# EAGLE library part RASPBERRYPI-PICO-W (library innove-raspberrypi)
Raspberry Pi Pico W
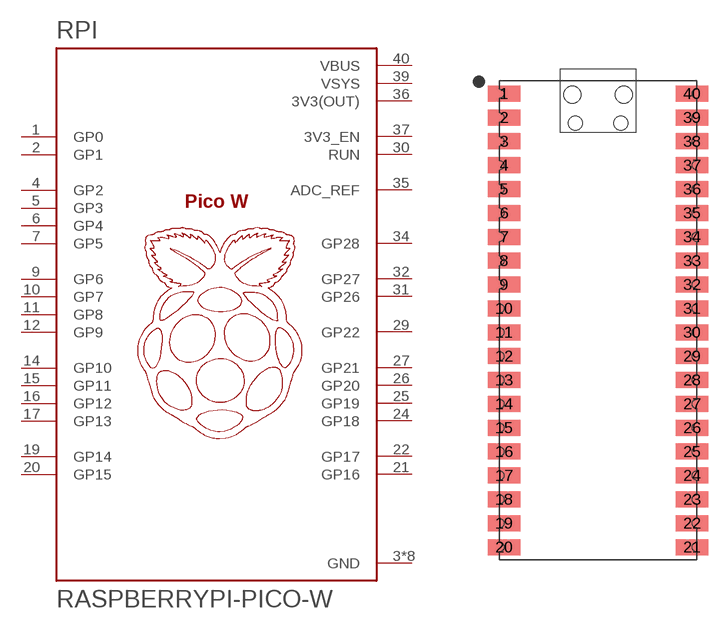
[diagram p4: symbol with the pads of PICO-W-PKG-SMD; footprint PICO-W-PKG-SMD]

Designator prefix RPI

## RASPBERRYPI-PICO-W  [PICO-W-PKG-SMD]
1  GP0
2  GP1
3  GND  pwr
4  GP2
5  GP3
6  GP4
7  GP5
8  GND  pwr
9  GP6
10  GP7
11  GP8
12  GP9
13  GND  pwr
14  GP10
15  GP11
16  GP12
17  GP13
18  GND  pwr
19  GP14
20  GP15
21  GP16
22  GP17
23  GND  pwr
24  GP18
25  GP19
26  GP20
27  GP21
28  GND  pwr
29  GP22
30  RUN  in
31  GP26
32  GP27
33  GND  pwr
34  GP28
35  ADC_REF  in
36  3V3(OUT)  pwr
37  3V3_EN  in
38  GND  pwr
39  VSYS  pwr
40  VBUS  pwr

## Footprint PICO-W-PKG-SMD (pad centres in mm)
smd 3.5 x 1.7: 1 -10,24.13; 2 -10,21.59; 3 -10,19.05; 4 -10,16.51; 5 -10,13.97; 6 -10,11.43; 7 -10,8.89; 8 -10,6.35; 9 -10,3.81; 10 -10,1.27; 11 -10,-1.27; 12 -10,-3.81; 13 -10,-6.35; 14 -10,-8.89; 15 -10,-11.43; 16 -10,-13.97; 17 -10,-16.51; 18 -10,-19.05; 19 -10,-21.59; 20 -10,-24.13; 21 10,-24.13; 22 10,-21.59; 23 10,-19.05; 24 10,-16.51; 25 10,-13.97; 26 10,-11.43; 27 10,-8.89; 28 10,-6.35; 29 10,-3.81; 30 10,-1.27; 31 10,1.27; 32 10,3.81; 33 10,6.35; 34 10,8.89; 35 10,11.43; 36 10,13.97; 37 10,16.51; 38 10,19.05; 39 10,21.59; 40 10,24.13
hole 1.8 at -2.725,24
hole 1.8 at 2.725,24
hole 1.5 at -2.425,20.97
hole 1.5 at 2.425,20.97